# Altium schematic symbol library SCH - OPAMP - ANALOG DEV ADA4817-1 LFCSP.SCHLIB: 1 symbol
Pins are listed as number, name and electrical type; pins without a type are passive.

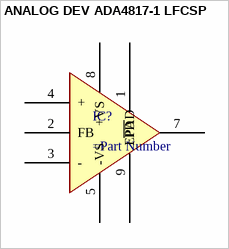
[diagram p0: symbol ANALOG DEV ADA4817-1 LFCSP]

## ANALOG DEV ADA4817-1 LFCSP
designator IC?
pins: 1 ~{PD}, 2 FB, 3 -, 4 +, 5 -VS, 7 OUT, 8 +VS, 9 EPAD